# EAGLE library part USBLC6-2P6 (library DSDEagleLibrary)
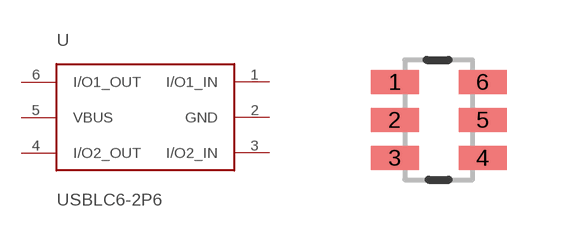
[diagram p50: symbol with the pads of SOT-666; footprint SOT-666]

Designator prefix -

## USBLC6-2P6  [SOT-666]
1  I/O1_IN
2  GND
3  I/O2_IN
4  I/O2_OUT
5  VBUS
6  I/O1_OUT

## Footprint SOT-666 (pad centres in mm)
smd 1.2 x 0.6: 1 -1.1,0.95; 2 -1.1,0; 3 -1.1,-0.95; 4 1.1,-0.95; 5 1.1,0; 6 1.1,0.95